# Altium schematic symbol library SMD Connectors.SchLib: 32 symbols
Pins are listed as number, name and electrical type; pins without a type are passive.

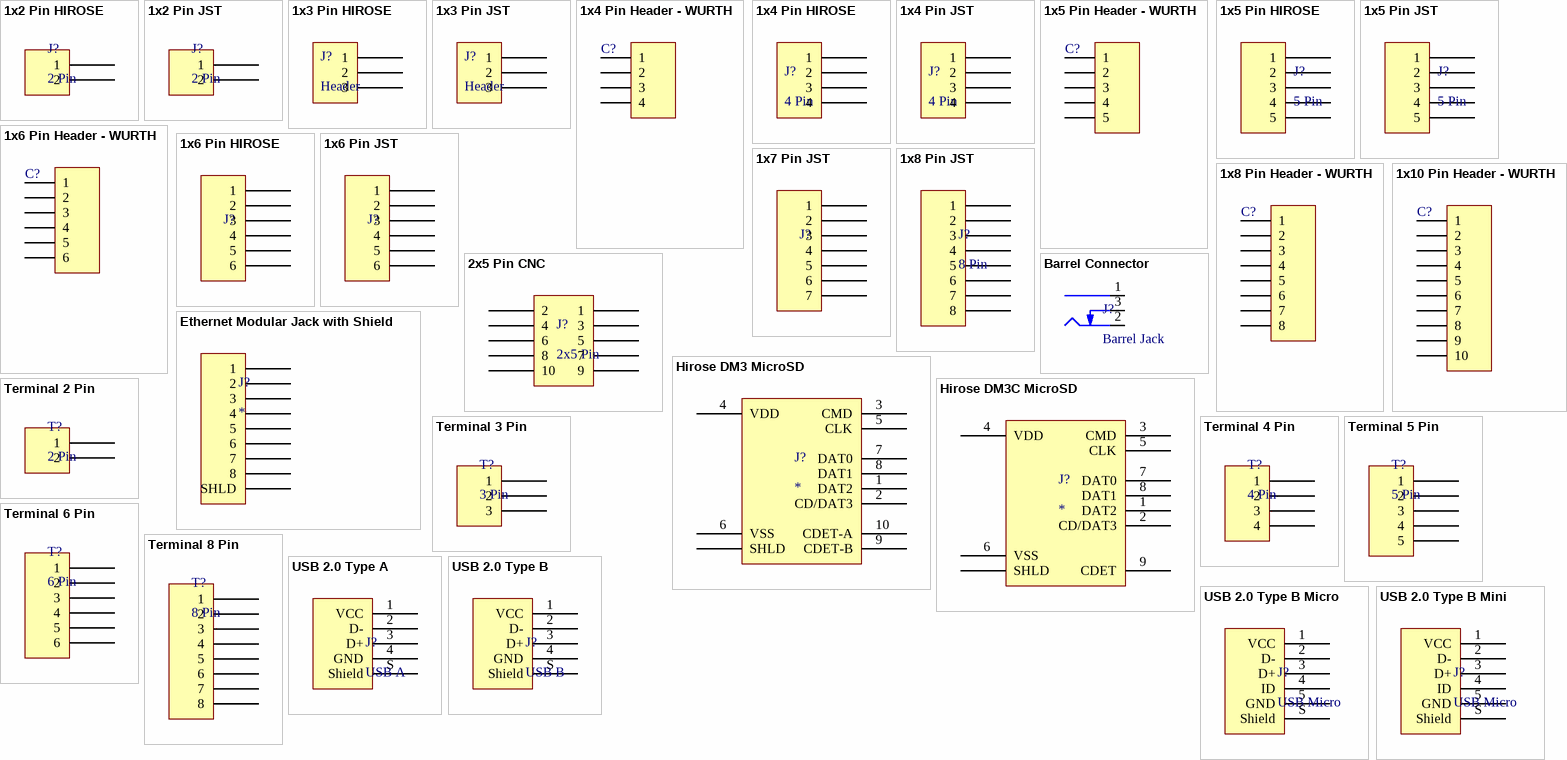
[diagram p0: symbols 1x2 Pin HIROSE to USB 2.0 Type B Mini]

## 1x2 Pin HIROSE
designator J?, comment 2 Pin
footprint HIROSE DF13-2P-1.25H (DF13 Series 1.25mm pitch miniature crimping connector single row)
footprint HIROSE DF13A-2P-1.25H (DF13 Series 1.25mm pitch miniature crimping connector single row)
pins: 1, 2

## 1x2 Pin JST
designator J?, comment 2 Pin
footprint JST BM02B-GHS-TBT (JST GH Series 1.25mm pitch, 4 pin top entry connector)
footprint JST BM02B-PASS-TF (JST PA Series 2mm pitch, top entry connector)
footprint JST BM02B-SRSS-TB (1.0mm pitch/Disconnectable Crimp style connector)
footprint JST BM02B-SURS-TF (1.0mm pitch/Disconnectable Crimp style connector)
footprint JST SM02B-GHS-TB (1.25mm pitch/Disconnectable Crimp style connectors)
footprint JST SM02B-PASS-TB (JST PA Series 2mm pitch, side entry connector)
footprint JST SM02B-SRSS-TB (1.0mm pitch/Disconnectable Crimp style connector)
footprint JST SM02B-SURS-TF (1.0mm pitch/Disconnectable Crimp style connector)
pins: 1, 2

## 1x3 Pin HIROSE
designator J?, comment Header
footprint HIROSE DF13-3P-1.25H (DF13 Series 1.25mm pitch miniature crimping connector single row)
footprint HIROSE DF13A-3P-1.25H (DF13 Series 1.25mm pitch miniature crimping connector single row)
pins: 1, 2, 3

## 1x3 Pin JST
designator J?, comment Header
footprint JST BM03B-GHS-TBT (JST GH Series 1.25mm pitch, 4 pin top entry connector)
footprint JST BM03B-PASS-TF (JST PA Series 2mm pitch, top entry connector)
footprint JST BM03B-SRSS-TB (1.0mm pitch/Disconnectable Crimp style connector)
footprint JST BM03B-SURS-TF (1.0mm pitch/Disconnectable Crimp style connector)
footprint JST SM03B-GHS-TB (1.25mm pitch/Disconnectable Crimp style connectors)
footprint JST SM03B-PASS-TB (JST PA Series 2mm pitch, side entry connector)
footprint JST SM03B-SRSS-TB (1.0mm pitch/Disconnectable Crimp style connector)
footprint JST SM03B-SURS-TF (1.0mm pitch/Disconnectable Crimp style connector)
pins: 1, 2, 3

## 1x4 Pin Header - WURTH
designator C?
Manufacturer: W¨¹rth Elektronik eiSos GmbH; partNo: 61000418221; ComponentLink1 Description: Manufacturer; ComponentLink2 Description: Datasheet; NoPins: 04; Created Date: 26 March 2013; ComponentLink1URL: http://www.we-online.com; ComponentLink2URL: http://katalog.we-online.de/em/datasheet/6100xx18221.pdf; Created by: Karrer Zheng
footprint WURTH 61000411921 (Socket Header, Pitch 2.54 mm, SMT, Vertical, single row, 4p)
footprint WURTH 61000411921 (Socket Header, Pitch 2.54 mm, SMT, Vertical, single row, 4p)
pins: 1, 2, 3, 4

## 1x4 Pin HIROSE
designator J?, comment 4 Pin
footprint HIROSE DF13-4P-1.25H (DF13 Series 1.25mm pitch miniature crimping connector single row)
footprint HIROSE DF13A-4P-1.25H (DF13 Series 1.25mm pitch miniature crimping connector single row)
pins: 1, 2, 3, 4

## 1x4 Pin JST
designator J?, comment 4 Pin
footprint JST BM04B-GHS-TBT (JST GH Series 1.25mm pitch, top entry connector)
footprint JST BM04B-PASS-TF (JST PA Series 2mm pitch, top entry connector)
footprint JST BM04B-PASS-TF (JST PA Series 2mm pitch, top entry connector)
footprint JST BM04B-SURS-TF (1.0mm pitch/Disconnectable Crimp style connector)
footprint JST SM04B-GHS-TB (1.25mm pitch/Disconnectable Crimp style connectors)
footprint JST SM04B-PASS-TB (JST PA Series 2mm pitch, side entry connector)
footprint JST SM04B-SRSS-TB (1.0mm pitch/Disconnectable Crimp style connector)
footprint JST SM04B-SURS-TF (1.0mm pitch/Disconnectable Crimp style connector)
pins: 1, 2, 3, 4

## 1x5 Pin Header - WURTH
designator C?
Manufacturer: W¨¹rth Elektronik eiSos GmbH; partNo: 61000418221; ComponentLink1 Description: Manufacturer; ComponentLink2 Description: Datasheet; NoPins: 04; Created Date: 26 March 2013; ComponentLink1URL: http://www.we-online.com; ComponentLink2URL: http://katalog.we-online.de/em/datasheet/6100xx18221.pdf; Created by: Karrer Zheng
footprint WURTH 61000511921 (Socket Header, Pitch 2.54 mm, SMT, Vertical, single row, 5p)
footprint WURTH 61000518221 (SMT, 4 pins, 1 row, straight, Type 1, gold plating)
pins: 1, 2, 3, 4, 5

## 1x5 Pin HIROSE
designator J?, comment 5 Pin
footprint HIROSE DF13-5P-1.25H (DF13 Series 1.25mm pitch miniature crimping connector single row)
footprint HIROSE DF13A-5P-1.25H (DF13 Series 1.25mm pitch miniature crimping connector single row)
pins: 1, 2, 3, 4, 5

## 1x5 Pin JST
designator J?, comment 5 Pin
footprint JST BM05B-GHS-TBT (JST GH Series 1.25mm pitch, top entry connector)
footprint JST BM05B-PASS-TF (JST PA Series 2mm pitch, top entry connector)
footprint JST BM05B-SRSS-TB (1.0mm pitch/Disconnectable Crimp style connector)
footprint JST SM05B-GHS-TB (1.25mm pitch/Disconnectable Crimp style connectors)
footprint JST SM05B-PASS-TB (JST PA Series 2mm pitch, side entry connector)
footprint JST SM05B-SRSS-TB (1.0mm pitch/Disconnectable Crimp style connector)
footprint JST SM05B-SURS-TF (1.0mm pitch/Disconnectable Crimp style connector)
pins: 1, 2, 3, 4, 5

## 1x6 Pin Header - WURTH
designator C?
Manufacturer: W¨¹rth Elektronik eiSos GmbH; partNo: 61000418221; ComponentLink1 Description: Manufacturer; ComponentLink2 Description: Datasheet; NoPins: 04; Created Date: 26 March 2013; ComponentLink1URL: http://www.we-online.com; ComponentLink2URL: http://katalog.we-online.de/em/datasheet/6100xx18221.pdf; Created by: Karrer Zheng
footprint WURTH 61000611921 (Socket Header, Pitch 2.54 mm, SMT, Vertical, single row, 6p)
footprint WURTH 61000618221 (SMT, 6 pins, 1 row, straight, Type 1, gold plating)
pins: 1, 2, 3, 4, 5, 6

## 1x6 Pin HIROSE
designator J?
footprint HIROSE DF13-6P-1.25H (DF13 Series 1.25mm pitch miniature crimping connector single row)
footprint HIROSE DF13A-6P-1.25H (DF13 Series 1.25mm pitch miniature crimping connector single row)
pins: 1, 2, 3, 4, 5, 6

## 1x6 Pin JST
designator J?
footprint JST BM06B-GHS-TBT (JST GH Series 1.25mm pitch, top entry connector)
footprint JST BM06B-PASS-TF (JST PA Series 2mm pitch, top entry connector)
footprint JST BM06B-SRSS-TB (1.0mm pitch/Disconnectable Crimp style connector)
footprint JST SM06B-GHS-TB (1.25mm pitch/Disconnectable Crimp style connectors)
footprint JST SM06B-PASS-TB (JST PA Series 2mm pitch, side entry connector)
footprint JST SM06B-SRSS-TB (1.0mm pitch/Disconnectable Crimp style connector)
footprint JST SM06B-SURS-TF (1.0mm pitch/Disconnectable Crimp style connector)
pins: 1, 2, 3, 4, 5, 6

## 1x7 Pin JST
designator J?
footprint JST BM07B-GHS-TBT (JST GH Series 1.25mm pitch, top entry connector)
footprint JST BM07B-PASS-TF (JST PA Series 2mm pitch, top entry connector)
footprint JST BM07B-SRSS-TB (1.0mm pitch/Disconnectable Crimp style connector)
footprint JST SM07B-GHS-TB (1.25mm pitch/Disconnectable Crimp style connectors)
footprint JST SM07B-PASS-TB (JST PA Series 2mm pitch, side entry connector)
footprint JST SM07B-SRSS-TB (1.0mm pitch/Disconnectable Crimp style connector)
pins: 1, 2, 3, 4, 5, 6, 7

## 1x8 Pin Header - WURTH
designator C?
Manufacturer: W¨¹rth Elektronik eiSos GmbH; partNo: 61000418221; ComponentLink1 Description: Manufacturer; ComponentLink2 Description: Datasheet; NoPins: 04; Created Date: 26 March 2013; ComponentLink1URL: http://www.we-online.com; ComponentLink2URL: http://katalog.we-online.de/em/datasheet/6100xx18221.pdf; Created by: Karrer Zheng
footprint WURTH 61000811921 (Socket Header, Pitch 2.54 mm, SMT, Vertical, single row, 8p)
footprint WURTH 61000818221 (Socket Header, Pitch 2.54 mm, SMT, Vertical, single row, 8p)
pins: 1, 2, 3, 4, 5, 6, 7, 8

## 1x8 Pin JST
designator J?, comment 8 Pin
footprint JST BM08B-GHS-TBT (JST GH Series 1.25mm pitch, top entry connector)
footprint JST BM08B-PASS-TF (JST PA Series 2mm pitch, top entry connector)
footprint JST BM08B-SRSS-TB (1.0mm pitch/Disconnectable Crimp style connector)
footprint JST BM08B-SURS-TF (1.0mm pitch/Disconnectable Crimp style connector)
footprint JST SM08B-GHS-TB (1.25mm pitch/Disconnectable Crimp style connectors)
footprint JST SM08B-PASS-TB (JST PA Series 2mm pitch, side entry connector)
footprint JST SM08B-SRSS-TB (1.0mm pitch/Disconnectable Crimp style connector)
pins: 1, 2, 3, 4, 5, 6, 7, 8

## 1x10 Pin Header - WURTH
designator C?
Manufacturer: W¨¹rth Elektronik eiSos GmbH; partNo: 61000418221; ComponentLink1 Description: Manufacturer; ComponentLink2 Description: Datasheet; NoPins: 04; Created Date: 26 March 2013; ComponentLink1URL: http://www.we-online.com; ComponentLink2URL: http://katalog.we-online.de/em/datasheet/6100xx18221.pdf; Created by: Karrer Zheng
footprint WURTH 61001011921 (Socket Header, Pitch 2.54 mm, SMT, Vertical, single row, 10p)
footprint WURTH 61001018221 (SMT, 10 pins, 1 row, straight, Type 1, gold plating)
pins: 1, 2, 3, 4, 5, 6, 7, 8, 9, 10

## 2x5 Pin CNC
designator J?, comment 2x5 Pin
footprint CNC Tech 3221-10-0300-00
pins: 1, 2, 3, 4, 5, 6, 7, 8, 9, 10

## Barrel Connector
designator J?, comment Barrel Jack
footprint CUI PJ-014DH-SMT
footprint CUI PJ-075-SMT
pins: 1 Centre, 2 Outer, 3 SW

## Ethernet Modular Jack with Shield
designator J?
footprint Amphenol RJCSE538001
footprint Amphenol RJLSE4238101T (Surface mount modular jack with shield)
pins: 1, 2, 3, 4, 5, 6, 7, 8, S SHLD

## Hirose DM3 MicroSD
designator J?
footprint HIROSE DM3BT-DSF-PEJS
footprint HIROSE DM3AT-SF-PEJM5
pins: 1 DAT2, 2 CD/DAT3, 3 CMD, 4 VDD, 5 CLK, 6 VSS, 7 DAT0, 8 DAT1, 9 CDET-B, 10 CDET-A, S SHLD

## Hirose DM3C MicroSD
designator J?
footprint HIROSE DM3CS
pins: 1 DAT2, 2 CD/DAT3, 3 CMD, 4 VDD, 5 CLK, 6 VSS, 7 DAT0, 8 DAT1, 9 CDET, S SHLD

## Terminal 2 Pin
designator T?, comment 2 Pin
footprint WURTH 691508110302
pins: 1, 2

## Terminal 3 Pin
designator T?, comment 3 Pin
footprint WURTH 691508110303
pins: 1, 2, 3

## Terminal 4 Pin
designator T?, comment 4 Pin
footprint WURTH 691508110304
pins: 1, 2, 3, 4

## Terminal 5 Pin
designator T?, comment 5 Pin
footprint WURTH 691508110305
pins: 1, 2, 3, 4, 5

## Terminal 6 Pin
designator T?, comment 6 Pin
footprint WURTH 691508110306
pins: 1, 2, 3, 4, 5, 6

## Terminal 8 Pin
designator T?, comment 8 Pin
footprint WURTH 691508110308
pins: 1, 2, 3, 4, 5, 6, 7, 8

## USB 2.0 Type A
designator J?, comment USB A
footprint TE USB 292303-9
pins: 1 VCC, 2 D-, 3 D+, 4 GND, S Shield

## USB 2.0 Type B
designator J?, comment USB B
footprint Harwin USB M701-370442
pins: 1 VCC, 2 D-, 3 D+, 4 GND, S Shield

## USB 2.0 Type B Micro
designator J?, comment USB Micro
footprint FCI USB 10118193-0001LF (USB 2.0 Type B Micro)
pins: 1 VCC, 2 D-, 3 D+, 4 ID, 5 GND, S Shield

## USB 2.0 Type B Mini
designator J?, comment USB Micro
footprint FCI USB 10033526-N3212LF (USB 2.0 Type B Mini)
pins: 1 VCC, 2 D-, 3 D+, 4 ID, 5 GND, S Shield